# Altium footprint library UC-4281.PcbLib: 20 footprints (part 1 of 2)
Each footprint in its own frame and in the unit in brackets; x right, y up, seen from the top. Pads: shape width x height; smd on the part's side, far side on the other; paste and mask are expansions set on the pad; w line width, h text height; cw(c..) or ccw(c..) is an arc to the next point about the centre after c.
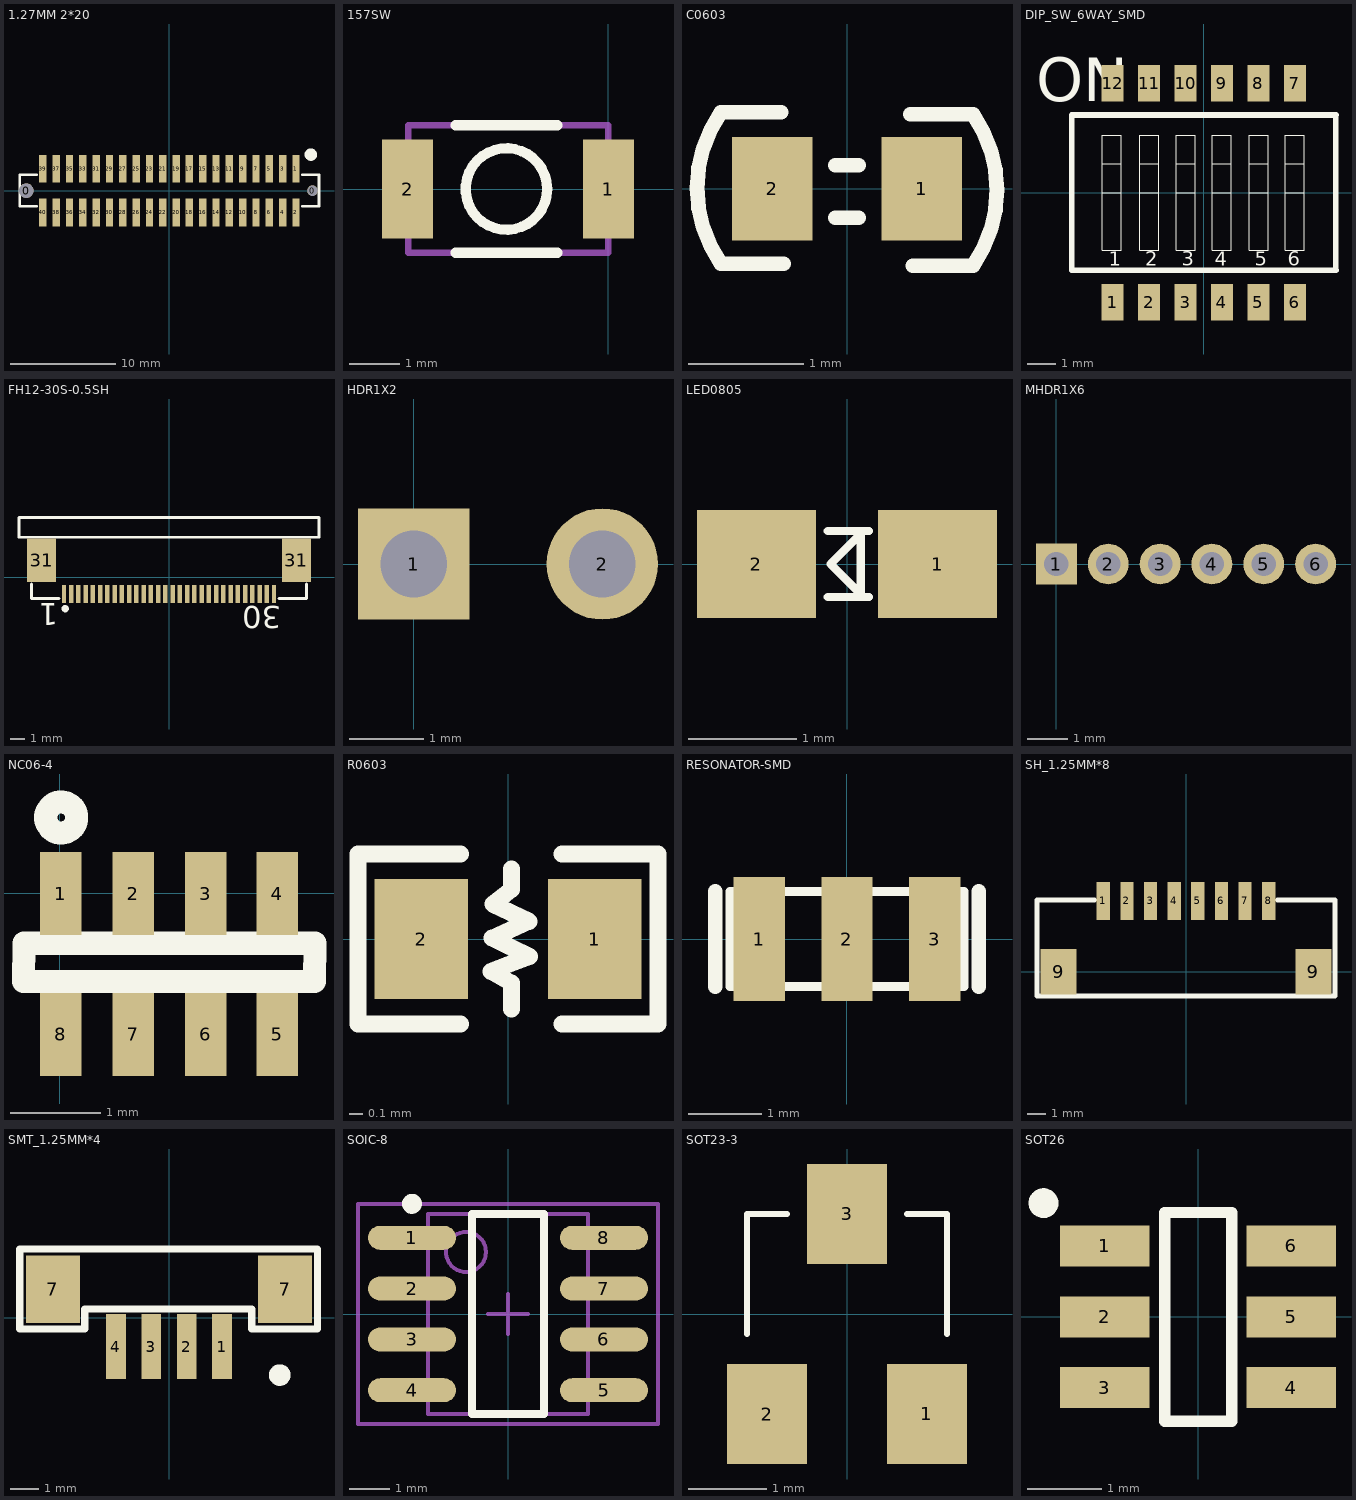
[diagram p0: the footprints below, top view; thin cyan lines are the x and y axes]

## 1.27MM 2*20 [mm]
pads (42):
  round 1.4 hole 1.4: 0(-13.64,0)
  round 1 hole 1: 0(13.64,0)
  rect 0.7x2.65 smd: 1(12.065,2.075) 2(12.065,-2.075) 3(10.795,2.075) 4(10.795,-2.075) 5(9.525,2.075) 6(9.525,-2.075) 7(8.255,2.075) 8(8.255,-2.075) 9(6.985,2.075) 10(6.985,-2.075) 11(5.715,2.075) 12(5.715,-2.075) 13(4.445,2.075) 14(4.445,-2.075) 15(3.175,2.075) 16(3.175,-2.075) 17(1.905,2.075) 18(1.905,-2.075) 19(0.635,2.075) 20(0.635,-2.075) 21(-0.635,2.075) 22(-0.635,-2.075) 23(-1.905,2.075) 24(-1.905,-2.075) 25(-3.175,2.075) 26(-3.175,-2.075) 27(-4.445,2.075) 28(-4.445,-2.075) 29(-5.715,2.075) 30(-5.715,-2.075) 31(-6.985,2.075) 32(-6.985,-2.075) 33(-8.255,2.075) 34(-8.255,-2.075) 35(-9.525,2.075) 36(-9.525,-2.075) 37(-10.795,2.075) 38(-10.795,-2.075) 39(-12.065,2.075) 40(-12.065,-2.075)
Top Overlay:
  circle w0.635: c13.483,3.429 r0.275
  lines w0.254: -12.651,-1.5 -14.26,-1.5 -14.26,1.5 -12.651,1.5 ; 12.651,-1.5 14.26,-1.5 14.26,1.5 12.651,1.5

## 157SW [mil] "157SW"
height 39.37
pads (2):
  rect 40x78 smd: 1(0,0) 2(-157.5,0)
Top Overlay:
  circle w8: c-80,0 r32.01
  lines w8: -120,-50 -40,-50 ; -120,50 -40,50
Mechanical 16:
  circle w5: c-80,0 r32.01
  lines w5: -157,-50 0,-50 0,50 -157,50 -157,-50

## C0603 [mm]
pads (2):
  rect 0.7x0.9 smd: 1(0.65,0) 2(-0.65,0)
Top Overlay:
  lines w0.127: -1.098,-0.654 -0.55,-0.654 ; -1.098,-0.65 cw(c-0.163,0.007) -1.098,0.664 ; -1.098,0.667 -0.575,0.667 ; -0.102,-0.254 0.102,-0.254 ; -0.102,0.204 0.102,0.204 ; 0.55,0.65 1.098,0.65 ; 0.575,-0.671 1.098,-0.671 ; 1.098,-0.668 ccw(c0.163,-0.01) 1.098,0.647

## DIP_SW_6WAY_SMD [mm] "DIP Switch; 16 Leads"
height 5.06
pads (12):
  rect 0.76x1.27 smd: 1(-3.175,-3.81) 2(-1.905,-3.81) 3(-0.635,-3.81) 4(0.635,-3.81) 5(1.905,-3.81) 6(3.175,-3.81) 7(3.175,3.81) 8(1.905,3.81) 9(0.635,3.81) 10(-0.635,3.81) 11(-1.905,3.81) 12(-3.175,3.81)
Top Overlay:
  lines w0.025: -3.53,0 -2.865,0 ; -3.53,1 -2.865,1 ; -2.23,0 -1.565,0 ; -2.23,1 -1.565,1 ; -0.955,0 -0.29,0 ; -0.955,1 -0.29,1 ; 0.295,0 0.96,0 ; 0.295,1 0.96,1 ; 1.585,0 2.25,0 ; 1.585,1 2.25,1 ; 2.835,0 3.5,0 ; 2.835,1 3.5,1 ; -3.53,-2 -3.53,2 -2.865,2 -2.865,-2 -3.53,-2 ; -2.23,-2 -2.23,2 -1.565,2 -1.565,-2 -2.23,-2 ; -0.955,-2 -0.955,2 -0.29,2 -0.29,-2 -0.955,-2 ; 0.295,-2 0.295,2 0.96,2 0.96,-2 0.295,-2 ; 1.585,-2 2.25,-2 2.25,2 1.585,2 1.585,-2 ; 2.835,-2 3.5,-2 3.5,2 2.835,2 2.835,-2
  lines w0.2: 4.6,-2.7 4.6,2.7 ; 4.605,-2.7 -4.6,-2.7 -4.6,2.7 4.605,2.7
  text "ON" at -5.842,3.175 h1.52
  text "4" at 0.381,-2.54 h0.5
  text "3" at -0.762,-2.54 h0.5
  text "2" at -2.032,-2.54 h0.5
  text "1" at -3.302,-2.54 h0.5
  text "5" at 1.778,-2.54 h0.5
  text "6" at 2.921,-2.54 h0.5

## FH12-30S-0.5SH [mm] "Connector; FH12 Series; 20 Position; 0.5mm Spaced Bottom Contact"
height 2
pads (32):
  rect 0.3x1.25 smd: 1(-7.25,-1.162) 2(-6.75,-1.162) 3(-6.25,-1.162) 4(-5.75,-1.162) 5(-5.25,-1.162) 6(-4.75,-1.162) 7(-4.25,-1.162) 8(-3.75,-1.162) 9(-3.25,-1.162) 10(-2.75,-1.162) 11(-2.25,-1.162) 12(-1.75,-1.162) 13(-1.25,-1.162) 14(-0.75,-1.162) 15(-0.25,-1.162) 16(0.25,-1.162) 17(0.75,-1.162) 18(1.25,-1.162) 19(1.75,-1.162) 20(2.25,-1.162) 21(2.75,-1.162) 22(3.25,-1.162) 23(3.75,-1.162) 24(4.25,-1.162) 25(4.75,-1.162) 26(5.25,-1.162) 27(5.75,-1.162) 28(6.25,-1.162) 29(6.75,-1.162) 30(7.25,-1.162)
  rect 2x3 smd: 31(-8.79,1.163) 31(8.79,1.163)
Top Overlay:
  circle w0.25: c-7.163,-2.182 r0.125
  lines w0.178: -10.35,2.752 -10.35,4.108 10.35,4.108 10.35,2.758 -10.35,2.758
  lines w0.2: -9.5,-0.492 -9.5,-1.492 -7.6,-1.492 ; 7.6,-1.492 9.5,-1.492 9.5,-0.492
  text "1" at -7.645,-1.803 h1.52
  text "30" at 7.747,-2.032 h1.52

## HDR1X2 [mm] "Connector; Header; 2 Position"
pads (2):
  rect 1.5x1.5 hole 0.9: 1(0,0)
  round 1.5 hole 0.9: 2(2.54,0)

## LED0805 [mm]
height 1.2
pads (2):
  rect 1.1x1 smd: 1(0.838,0) 2(-0.838,0)
Top Overlay:
  lines w0.076: -0.178,-0.305 0.203,-0.305 ; -0.178,0.305 0.203,0.305 ; 0.102,-0.254 -0.152,0 0.102,0.254 ; 0.127,-0.254 0.127,0.254

## MHDR1X6 [mm] "Connector; Header; 6 Position"
pads (6):
  rect 1x1 hole 0.6: 1(0,0)
  round 1 hole 0.6: 2(1.27,0) 3(2.54,0) 4(3.81,0) 5(5.08,0) 6(6.35,0)

## NC06-4 [mil]
height 68.9
pads (8):
  rect 18x36 smd: 1(0.4,-0.16) 2(31.9,-0.16) 3(63.39,-0.16) 4(94.4,-0.16) 5(94.4,-61.16) 6(63.39,-61.16) 7(31.9,-61.16) 8(0.4,-61.16)
Top Overlay:
  circle w10: c0.69,32.84 r6.71
  lines w10: -15.6,-38.16 -15.35,-21.67 110.64,-21.67 110.4,-38.16 -15.6,-38.16

## R0603 [mm]
height 1.98
pads (2):
  rect 0.7x0.9 smd: 1(0.65,0) 2(-0.65,0)
Top Overlay:
  lines w0.127: -0.356,-0.635 -1.123,-0.635 -1.123,0.635 -0.356,0.635 ; 0.025,0.525 0.025,0.37 -0.112,0.261 0.157,0.132 -0.12,0.007 0.16,-0.13 -0.127,-0.242 0.028,-0.331 0.028,-0.524 ; 0.406,-0.635 1.123,-0.635 1.123,0.635 0.406,0.635

## RESONATOR-SMD [mm]
height 3.6
pads (3):
  rect 0.7x1.7 smd: 1(-1.2,0) 2(0,0) 3(1.2,0)
Top Overlay:
  lines w0.127: -1.6,-0.65 -1.6,0.65 1.6,0.65 1.6,-0.65 -1.6,-0.65
  lines w0.203: -1.8,-0.65 -1.8,0.65 ; 1.8,-0.65 1.8,0.65

## SH_1.25MM*8 [mm]
pads (10):
  rect 0.7x2 smd: 1(-4.375,3.75) 2(-3.125,3.75) 3(-1.875,3.75) 4(-0.625,3.75) 5(0.625,3.75) 6(1.875,3.75) 7(3.125,3.75) 8(4.375,3.75)
  rect 1.9x2.4 smd: 9(-6.731,0) 9(6.731,0)
Top Overlay:
  lines w0.254: -4.826,3.81 -7.874,3.81 -7.874,-1.27 7.874,-1.27 7.874,3.81 4.826,3.81

## SMT_1.25MM*4 [mm]
height 1
pads (6):
  rect 0.7x2.3 smd: 1(1.875,-1.025) 2(0.625,-1.025) 3(-0.625,-1.025) 4(-1.875,-1.025)
  rect 1.9x2.4 smd: 7(-4.1,1) 7(4.1,1)
Top Overlay:
  circle w0.508: c3.912,-2.032 r0.127
  lines w0.254: -5.275,-0.4 -5.275,2.425 5.25,2.425 5.25,-0.4 2.925,-0.4 2.925,0.3 -2.975,0.3 -2.975,-0.4 -5.275,-0.4

## SOIC-8 [mm]
height 1.75
pads (8):
  oval 2.2x0.6 smd: 1(-2.4,1.905) 2(-2.4,0.635) 3(-2.4,-0.635) 4(-2.4,-1.905) 5(2.4,-1.905) 6(2.4,-0.635) 7(2.4,0.635) 8(2.4,1.905)
Top Overlay:
  circle w0.25: c-2.4,2.755 r0.125
  lines w0.2: -0.9,-2.5 0.9,-2.5 0.9,2.5 -0.9,2.5 -0.9,-2.5
Mechanical 13:
  circle w0.1: c-1.05,1.55 r0.5
  lines w0.1: -2,-2.5 2,-2.5 2,2.5 -2,2.5 -2,-2.5
Mechanical 15:
  lines w0.1: -0.5,0 0.5,0 ; 0,-0.5 0,0.5 ; -3.75,-2.75 3.75,-2.75 3.75,2.75 -3.75,2.75 -3.75,-2.75
3D body: height 1.75, standoff 0.1, extent -2,-2.5 2,2.5

## SOT23-3 [mil]
height 104.33
pads (3):
  rect 40x50 smd: 1(40,-50) 2(-40,-50) 3(0,50)
Top Overlay:
  lines w3: -50,-10 -50,50 -30,50 ; 30,50 50,50 50,-10
3D body: height 41.65, standoff -1.65, extent -59,-52.21 59.11,46.21

## SOT26 [mm]
pads (6):
  rect 1.2x0.55 smd: 1(-1.25,0.95) 2(-1.25,0) 3(-1.25,-0.95) 4(1.25,-0.95) 5(1.25,0) 6(1.25,0.95)
Top Overlay:
  circle w0.2: c-2.075,1.525 r0.1
  lines w0.152: -0.45,-1.4 0.45,-1.4 0.45,1.4 -0.45,1.4 -0.45,-1.4